# Altium schematic symbol library Schlib1.SchLib: 1 symbol
Pins are listed as number, name and electrical type; pins without a type are passive.

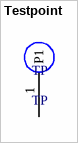
[diagram p0: symbol Testpoint]

## Testpoint
designator TP, comment TP  (no BOM)
footprint Testpoint
pins: 1 P1